# Altium footprint library 55.13.PcbLib: 1 footprints
Each footprint in its own frame and in the unit in brackets; x right, y up, seen from the top. Pads: shape width x height; smd on the part's side, far side on the other; paste and mask are expansions set on the pad; w line width, h text height; cw(c..) or ccw(c..) is an arc to the next point about the centre after c.
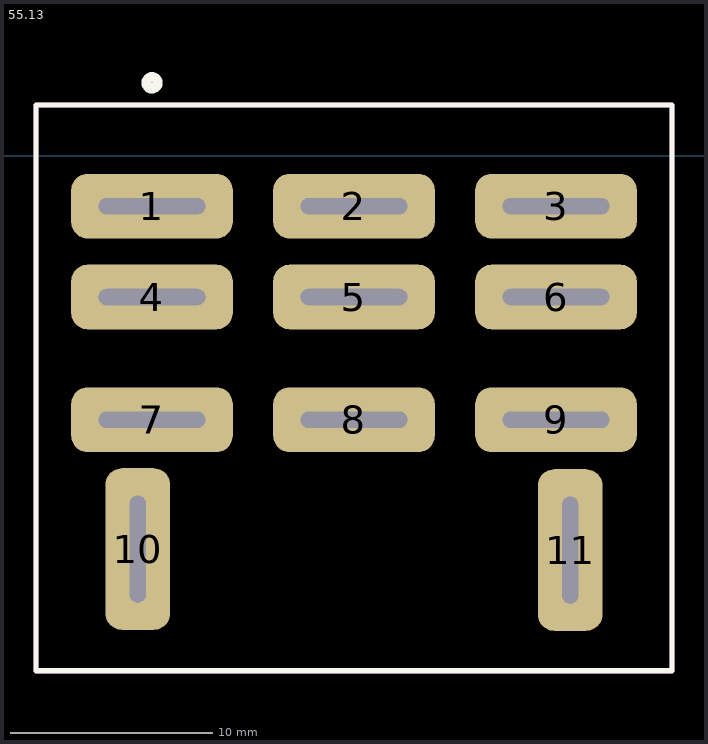
[diagram p0: the footprint, top view; thin cyan lines are the x and y axes]

## 55.13 [mm]
pads (11):
  rrect50% 8x3.2 hole 5.3 slot 0.8 at 90 deg: 1(10.75,-2.5) 2(20.75,-2.5) 3(30.75,-2.5) 4(10.75,-7) 5(20.75,-7) 6(30.75,-7) 7(10.75,-13.075) 8(20.75,-13.075) 9(30.75,-13.075)
  rrect50% 3.2x8 hole 5.3 slot 0.8 at 0 deg: 10(10.05,-19.475) 11(31.45,-19.525)
L26-Silk Screen Top (Multiple PADS layers...):
  circle w0.5: c10.75,3.6 r0.279
  lines w0.254: 5,-25.5 5,2.5 36.5,2.5 36.5,-25.5 5,-25.5
Mechanical 1:
  lines w0.254: 20.75,2.5 20.75,2.5
L15 (Multiple PADS layers...):
  lines w0.254: 5,-25.5 5,2.5 36.5,2.5 36.5,-25.5 5,-25.5
3D body "LY3_D.step": height 36.5, standoff -6.4, extent 5,-25.5 36.5,2.5
3D body: height 7.38, standoff -12.41, extent 21.25,-11.423 21.25,-11.423